# EAGLE library part EINK-2.7IN-EMBEDDEDARTISTS (library BOBs)
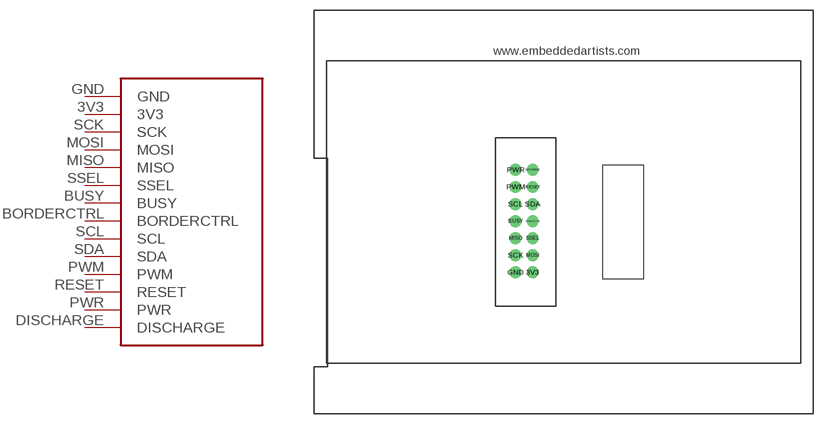
[diagram p9: symbol with the pads of EINK-2.7IN-EMBEDDEDARTISTS; footprint EINK-2.7IN-EMBEDDEDARTISTS]

Designator prefix -

## EINK-2.7IN-EMBEDDEDARTISTS-BOB (DIST: Embedded Artists; DISTPN: EA-LCD-009)  [EINK-2.7IN-EMBEDDEDARTISTS]
3V3  3V3
BORDERCTRL  BORDERCTRL
BUSY  BUSY
DISCHARGE  DISCHARGE
GND  GND
MISO  MISO
MOSI  MOSI
PWM  PWM
PWR  PWR
RESET  RESET
SCK  SCK
SCL  SCL
SDA  SDA
SSEL  SSEL

## Footprint EINK-2.7IN-EMBEDDEDARTISTS (pad centres in mm)
drill 1.016 pad 1.778: 3V3 32.54,21; BORDERCTRL 32.54,28.62; BUSY 30,28.62; DISCHARGE 32.54,36.24; GND 30,21; MISO 30,26.08; MOSI 32.54,23.54; PWM 30,33.7; PWR 30,36.24; RESET 32.54,33.7; SCK 30,23.54; SCL 30,31.16; SDA 32.54,31.16; SSEL 32.54,26.08